# EAGLE library part SW_4PDT_TA (library wheat)
SWITCH, 4PDT, E-SWITCH TA-SERIES
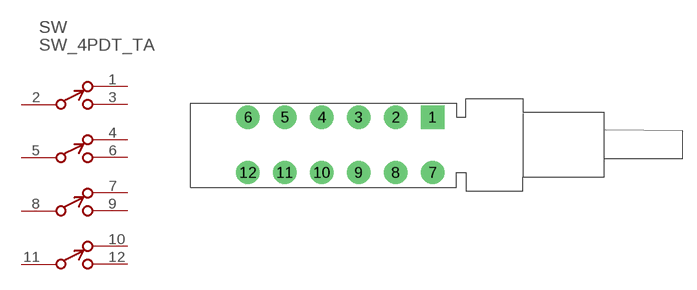
[diagram p1: symbol with the pads of SW_4PDT_TA; footprint SW_4PDT_TA]

Designator prefix SW

## SW_4PDT_TA  [SW_4PDT_TA]
1  1NC  pas
2  1C  pas
3  1NO  pas
4  2NC  pas
5  2C  pas
6  2NO  pas
7  3NC  pas
8  3C  pas
9  3NO  pas
10  4NC  pas
11  4C  pas
12  4NO  pas

## Footprint SW_4PDT_TA (pad centres in mm)
SWITCH, 4PDT, E-SWITCH TA-SERIES
drill 0.813 pad 2.54 square: 1 -18.6,3
drill 0.813 pad 2.54: 2 -22.6,3; 3 -26.6,3; 4 -30.6,3; 5 -34.6,3; 6 -38.6,3; 7 -18.6,-3; 8 -22.6,-3; 9 -26.6,-3; 10 -30.6,-3; 11 -34.6,-3; 12 -38.6,-3